# EAGLE library part MIC28515 (library GreenFuel)
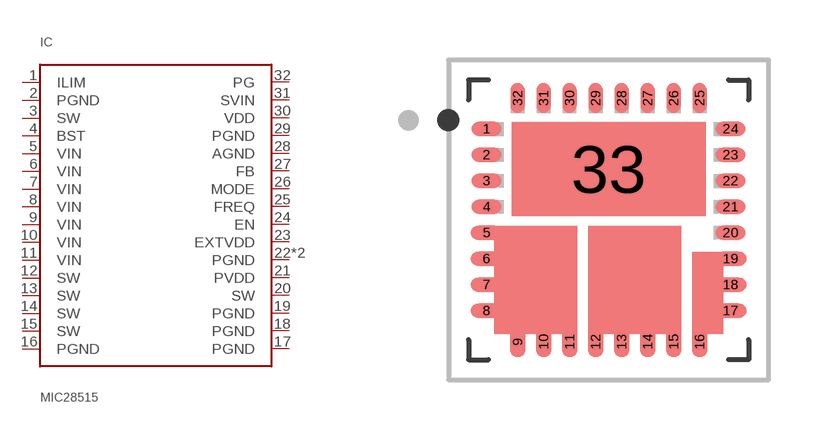
[diagram p5: symbol with the pads of VQFN-32; footprint VQFN-32]

Designator prefix IC

## MIC28515V1  [VQFN-32]
1  ILIM  in
2  PGND  pwr
3  SW  out
4  BST  out
5  VIN  in
6  VIN  in
7  VIN  in
8  VIN  in
9  VIN  in
10  VIN  in
11  VIN  in
12  SW  out
13  SW  out
14  SW  out
15  SW  out
16  PGND  pwr
17  PGND  pwr
18  PGND  pwr
19  PGND  pwr
20  SW  out
21  PVDD  pwr
22  PGND  pwr
23  EXTVDD  pwr
24  EN  in
25  FREQ  in
26  MODE  in
27  FB  in
28  AGND  pwr
29  PGND  pwr
30  VDD  pwr
31  SVIN  in
32  PG  out
33  PGND  pwr

## Footprint VQFN-32 (pad centres in mm)
smd 0.75 x 0.35: 1 -3.05,2.275; 2 -3.05,1.625; 3 -3.05,0.975; 4 -3.05,0.325; 5 -3.05,-0.325; 6 -3.05,-0.975; 7 -3.05,-1.625; 8 -3.05,-2.275; 17 3.05,-2.275; 18 3.05,-1.625; 19 3.05,-0.975; 20 3.05,-0.325; 21 3.05,0.325; 22 3.05,0.975; 23 3.05,1.625; 24 3.05,2.275
smd 0.35 x 0.75: 9 -2.275,-3.05; 10 -1.625,-3.05; 11 -0.975,-3.05; 12 -0.325,-3.05; 13 0.325,-3.05; 14 0.975,-3.05; 15 1.625,-3.05; 16 2.275,-3.05; 25 2.275,3.05; 26 1.625,3.05; 27 0.975,3.05; 28 0.325,3.05; 29 -0.325,3.05; 30 -0.975,3.05; 31 -1.625,3.05; 32 -2.275,3.05
smd 4.85 x 2.36: 33 0,1.27